# EAGLE library part LM4819 (library GW-devices)
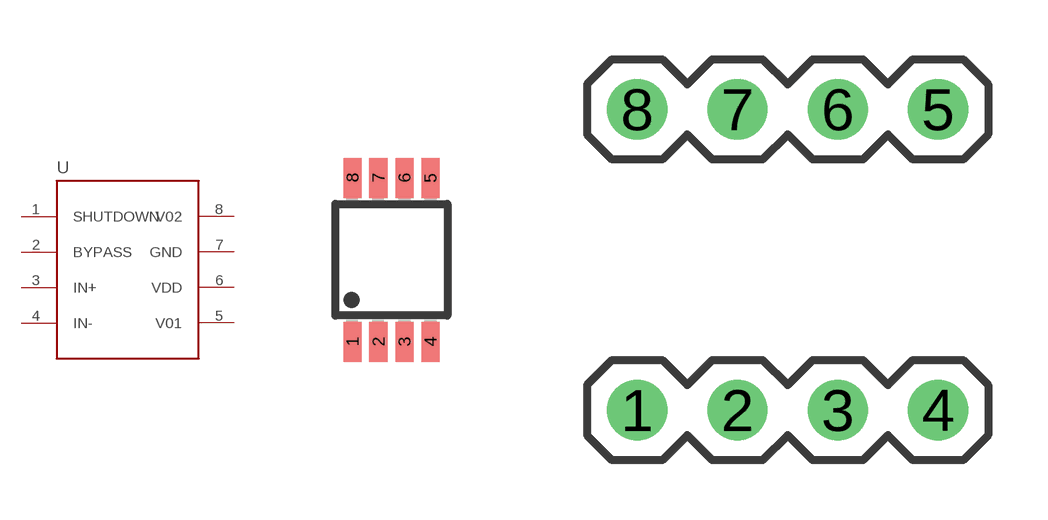
[diagram p6: symbol with the pads of MSOP8; footprints MSOP8, SMD8-TO-DIP]

Designator prefix -

## LM4819  [MSOP8]
1  SHUTDOWN  in
2  BYPASS  in
3  IN+  in
4  IN-  in
5  V01  out
6  VDD  pwr
7  GND  pwr
8  V02  out

## LM4819DIP  [SMD8-TO-DIP]
Pads as for MSOP8

## Footprint MSOP8 (pad centres in mm)
Micro Small Outline Package Grid .65mm
smd 0.45 x 1: 1 -0.975,-2.05; 2 -0.325,-2.05; 3 0.325,-2.05; 4 0.975,-2.05; 5 0.975,2.05; 6 0.325,2.05; 7 -0.325,2.05; 8 -0.975,2.05

## Footprint SMD8-TO-DIP (pad centres in mm)
drill 1.016: 1 -2.54,-2.54; 2 0,-2.54; 3 2.54,-2.54; 4 5.08,-2.54; 5 5.08,5.08; 6 2.54,5.08; 7 0,5.08; 8 -2.54,5.08